# Altium footprint library PCB - LEADED - SON50P250X250X80-9N.PcbLib: 1 footprints
Each footprint in its own frame and in the unit in brackets; x right, y up, seen from the top. Pads: shape width x height; smd on the part's side, far side on the other; paste and mask are expansions set on the pad; w line width, h text height; cw(c..) or ccw(c..) is an arc to the next point about the centre after c.
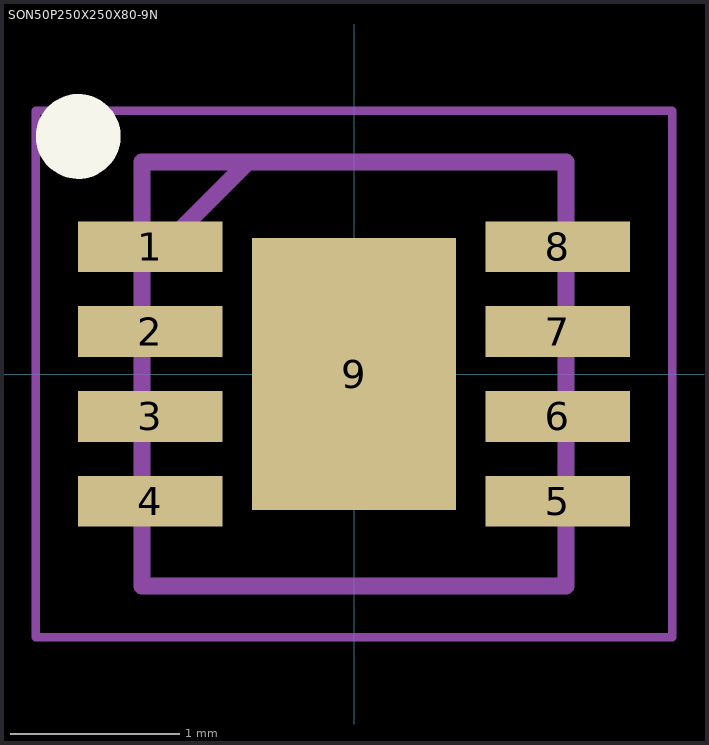
[diagram p0: the footprint, top view; thin cyan lines are the x and y axes]

## SON50P250X250X80-9N [mm]
pads (9):
  rect 0.85x0.3 smd: 1(-1.2,0.75) 2(-1.2,0.25) 3(-1.2,-0.25) 4(-1.2,-0.75) 5(1.2,-0.75) 6(1.2,-0.25) 7(1.2,0.25) 8(1.2,0.75)
  rect 1.2x1.6 smd: 9(0,0)
Top Overlay:
  circle w0.25: c-1.625,1.4 r0.125
Top Assembly:
  lines w0.1: -1.25,0.625 -0.625,1.25 ; -1.25,-1.25 -1.25,1.25 1.25,1.25 1.25,-1.25 -1.25,-1.25
Top Courtyard:
  lines w0.05: -1.875,-1.55 1.875,-1.55 1.875,1.55 -1.875,1.55 -1.875,-1.55
Top Designator:
  text ".Designator" at -1.829,1.846 h0.36
Top Component Center:
  lines w0.102: -0.381,0 0,0 0.381,0 ; 0,-0.381 0,0.381
3D body "LM57CISD-10_NOPB.stp": height 0.8, standoff 0, extent -1.25,-1.25 1.25,1.25